# EAGLE library part 418217270912 (library Eagle_Wuerth_Elektronik_Switch)
WS-RA 2.54 mm right angled compact THT Dip Switch with raised actuator, 12 Pole
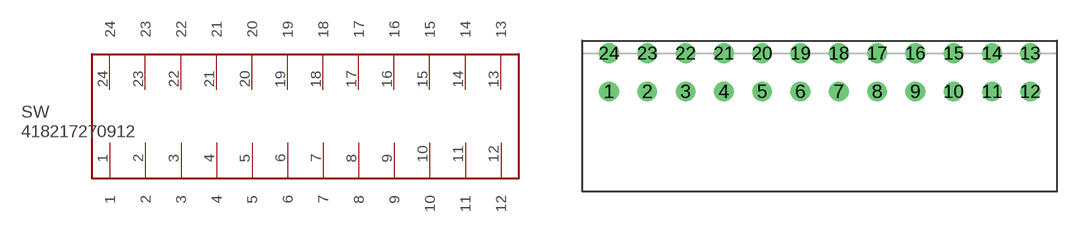
[diagram p82: symbol with the pads of 418217270912; footprint 418217270912]

Designator prefix SW

## 418217270912  [418217270912]
1  1
2  2
3  3
4  4
5  5
6  6
7  7
8  8
9  9
10  10
11  11
12  12
13  13
14  14
15  15
16  16
17  17
18  18
19  19
20  20
21  21
22  22
23  23
24  24

## Footprint 418217270912 (pad centres in mm)
WS-RA 2.54 mm right angled compact THT Dip Switch with raised actuator, 12 Pole
drill 0.8: 1 0,-1.27; 2 2.54,-1.27; 3 5.08,-1.27; 4 7.62,-1.27; 5 10.16,-1.27; 6 12.7,-1.27; 7 15.24,-1.27; 8 17.78,-1.27; 9 20.32,-1.27; 10 22.86,-1.27; 11 25.4,-1.27; 12 27.94,-1.27; 13 27.94,1.27; 14 25.4,1.27; 15 22.86,1.27; 16 20.32,1.27; 17 17.78,1.27; 18 15.24,1.27; 19 12.7,1.27; 20 10.16,1.27; 21 7.62,1.27; 22 5.08,1.27; 23 2.54,1.27; 24 0,1.27